# EAGLE library part HA1-5330-5 (library Intersil_By_element14_Batch_1)
650ns Precision Sample and Hold Amplifier
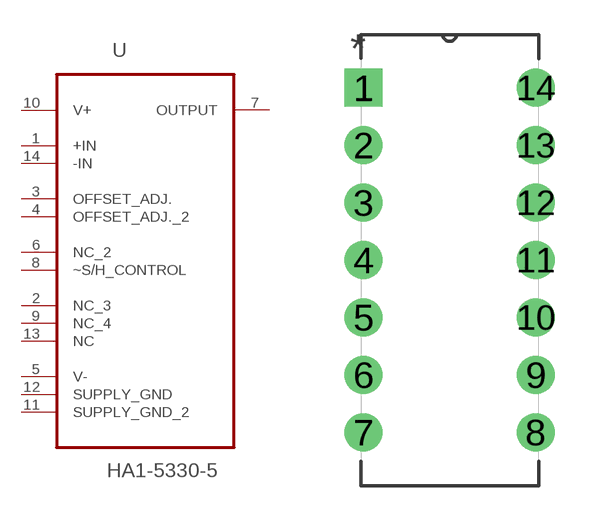
[diagram p88: symbol with the pads of DIP254P762X508-14; footprint DIP254P762X508-14]

Designator prefix U

## HA1-5330-5 (MPN: HA1-5330-5; OC_FARNELL: 402278; OC_NEWARK: 06F5192; PACKAGE: DIP-14; SUPPLIER: INTERSIL)  [DIP254P762X508-14]
1  +IN  in
2  NC_3  nc
3  OFFSET_ADJ.  pas
4  OFFSET_ADJ._2  pas
5  V-  pwr
6  NC_2  nc
7  OUTPUT  out
8  ~S/H_CONTROL  pas
9  NC_4  nc
10  V+  pwr
11  SUPPLY_GND_2  pas
12  SUPPLY_GND  pas
13  NC  nc
14  -IN  in

## Footprint DIP254P762X508-14 (pad centres in mm)
drill 1.118 square: 1 -7.62,15.24
drill 1.118: 2 -7.62,12.7; 3 -7.62,10.16; 4 -7.62,7.62; 5 -7.62,5.08; 6 -7.62,2.54; 7 -7.62,0; 8 0,0; 9 0,2.54; 10 0,5.08; 11 0,7.62; 12 0,10.16; 13 0,12.7; 14 0,15.24